# Altium schematic symbol library Schlib1.SchLib: 390 symbols (part 1 of 5)
Pins are listed as number, name and electrical type; pins without a type are passive.

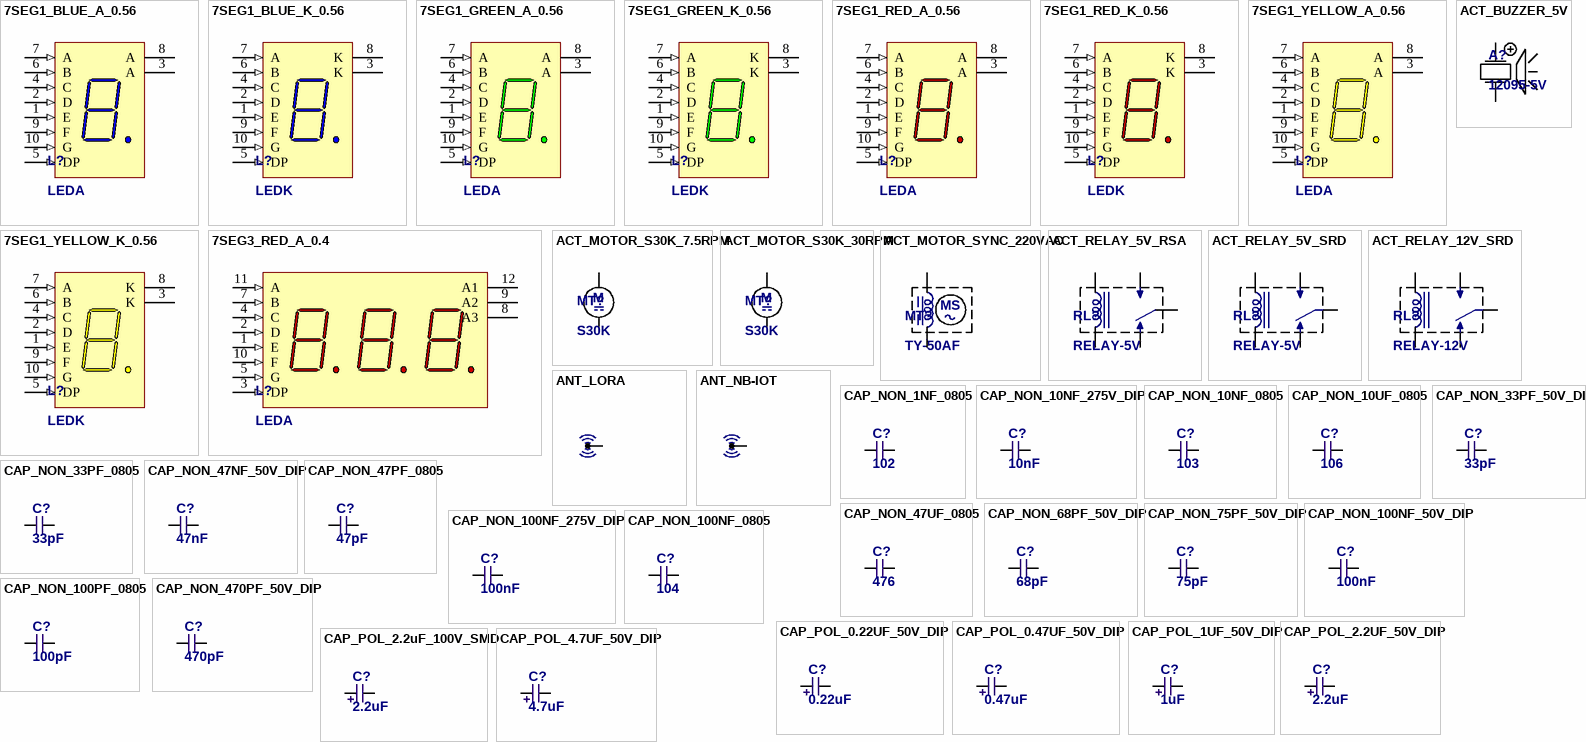
[diagram p0: symbols 7SEG1_BLUE_A_0.56 to CAP_POL_4.7UF_50V_DIP]

## 7SEG1_BLUE_A_0.56
designator L?, comment LEDA
Segment Digit LED Display; Price: 0.26; Package: TH
footprint LED7SEG-1-0.56
pins: 1 E (in) "Cathode", 2 D (in) "Cathode", 3 A (power) "Anode", 4 C (in) "Cathode", 5 DP (in) "Cathode", 6 B (in) "Cathode", 7 A (in) "Cathode", 8 A (power) "Anode", 9 F (in) "Cathode", 10 G (in) "Cathode"

## 7SEG1_BLUE_K_0.56
designator L?, comment LEDK
Segment Digit LED Display; Price: 0.26; Package: TH
footprint LED7SEG-1-0.56
pins: 1 E (in) "Cathode", 2 D (in) "Cathode", 3 K (power) "Anode", 4 C (in) "Cathode", 5 DP (in) "Cathode", 6 B (in) "Cathode", 7 A (in) "Cathode", 8 K (power) "Anode", 9 F (in) "Cathode", 10 G (in) "Cathode"

## 7SEG1_GREEN_A_0.56
designator L?, comment LEDA
Segment Digit LED Display; Price: 0.26; Package: TH
footprint LED7SEG-1-0.56
pins: 1 E (in) "Cathode", 2 D (in) "Cathode", 3 A (power) "Anode", 4 C (in) "Cathode", 5 DP (in) "Cathode", 6 B (in) "Cathode", 7 A (in) "Cathode", 8 A (power) "Anode", 9 F (in) "Cathode", 10 G (in) "Cathode"

## 7SEG1_GREEN_K_0.56
designator L?, comment LEDK
Segment Digit LED Display; Price: 0.26; Package: TH
footprint LED7SEG-1-0.56
pins: 1 E (in) "Cathode", 2 D (in) "Cathode", 3 K (power) "Anode", 4 C (in) "Cathode", 5 DP (in) "Cathode", 6 B (in) "Cathode", 7 A (in) "Cathode", 8 K (power) "Anode", 9 F (in) "Cathode", 10 G (in) "Cathode"

## 7SEG1_RED_A_0.56
designator L?, comment LEDA
Segment Digit LED Display; Price: 0.26; Package: TH
footprint LED7SEG-1-0.56
pins: 1 E (in) "Cathode", 2 D (in) "Cathode", 3 A (power) "Anode", 4 C (in) "Cathode", 5 DP (in) "Cathode", 6 B (in) "Cathode", 7 A (in) "Cathode", 8 A (power) "Anode", 9 F (in) "Cathode", 10 G (in) "Cathode"

## 7SEG1_RED_K_0.56
designator L?, comment LEDK
Segment Digit LED Display; Price: 0.26; Package: TH
footprint LED7SEG-1-0.56
pins: 1 E (in) "Cathode", 2 D (in) "Cathode", 3 K (power) "Anode", 4 C (in) "Cathode", 5 DP (in) "Cathode", 6 B (in) "Cathode", 7 A (in) "Cathode", 8 K (power) "Anode", 9 F (in) "Cathode", 10 G (in) "Cathode"

## 7SEG1_YELLOW_A_0.56
designator L?, comment LEDA
Segment Digit LED Display; Price: 0.26; Package: TH
footprint LED7SEG-1-0.56
pins: 1 E (in) "Cathode", 2 D (in) "Cathode", 3 A (power) "Anode", 4 C (in) "Cathode", 5 DP (in) "Cathode", 6 B (in) "Cathode", 7 A (in) "Cathode", 8 A (power) "Anode", 9 F (in) "Cathode", 10 G (in) "Cathode"

## 7SEG1_YELLOW_K_0.56
designator L?, comment LEDK
Segment Digit LED Display; Price: 0.26; Package: TH
footprint LED7SEG-1-0.56
pins: 1 E (in) "Cathode", 2 D (in) "Cathode", 3 K (power) "Anode", 4 C (in) "Cathode", 5 DP (in) "Cathode", 6 B (in) "Cathode", 7 A (in) "Cathode", 8 K (power) "Anode", 9 F (in) "Cathode", 10 G (in) "Cathode"

## 7SEG3_RED_A_0.4
designator L?, comment LEDA
Segment Digit LED Display; Price: 0.26; Package: TH
footprint LED7SEG-4031-0.4
pins: 1 E (in) "Cathode", 2 D (in) "Cathode", 3 DP (in) "Cathode", 4 C (in) "Cathode", 5 G (in) "Cathode", 7 B (in) "Cathode", 8 A3 (power) "Anode", 9 A2 (power) "Anode", 10 F (in) "Cathode", 11 A (in) "Cathode", 12 A1 (power) "Anode"

## ACT_BUZZER_5V
designator A?, comment 12095-5V
ALARM-AUDIBLE PIEZO ALARM PIN TYPE; 5V; Container: Inductors_Box; Price: 0.1; Package: TH; Stock: 8; Label: 12095-5V; Manufacturer: https://shopee.vn/Set-10-C%C3%B2i-B%C3%A1o-12095-3v-5v-12v-12*9.5mm-16R-12085-Chuy%C3%AAn-D%E1%BB%A5ng-i.778834786.13593389786; Temperature Range: -20 to +70 degC; ComponentLink1Description: Datasheet; ComponentLink1URL: E:\NEW_DATA\ELECTRONIC_DOCUMENT\DATASHEET\51-7600_v1.pdf
footprint BUZZER_KPM1205
pins: A, K

## ACT_MOTOR_S30K_7.5RPM
designator MT?, comment S30K
DC MOTOR, RPM=7.5, P=1.2 kg.cm; Container: Inductors_Box; Price: 1.9; Package: TH; Stock: 0; Label: S30K; Manufacturer: https://item.taobao.com/item.htm?spm=a230r.1.14.19.505a5586R96faC&id=521016360155&ns=1&abbucket=16#detail; Temperature Range: -25 to +70 degC; ComponentLink1Description: Datasheet; ComponentLink1URL: E:\NEW_DATA\ELECTRONIC_DOCUMENT\DATASHEET\T2.GtgXX8dXXXXXXXX_!!26824653.jpg
footprint Header 2P (CON2)
pins: 1 P, 2 N
text: M

## ACT_MOTOR_S30K_30RPM
designator MT?, comment S30K
DC MOTOR, RPM=30, P=0.4 kg.cm; Container: Inductors_Box; Price: 1.52; Package: TH; Stock: 0; Label: S30K; Manufacturer: https://item.taobao.com/item.htm?spm=a230r.1.14.19.505a5586R96faC&id=521016360155&ns=1&abbucket=16#detail; Temperature Range: -25 to +70 degC; ComponentLink1Description: Datasheet; ComponentLink1URL: E:\NEW_DATA\ELECTRONIC_DOCUMENT\DATASHEET\T2.GtgXX8dXXXXXXXX_!!26824653.jpg
footprint Header 2P (CON2)
pins: 1 P, 2 N
text: M

## ACT_MOTOR_SYNC_220VAC
designator MT?, comment TY-50AF
AC SYNCHRONOUS MOTOR MOTOR-24H, RPM=3, P<4W; Container: Inductors_Box; Label: SYNC_MOTOR; Price: 1.1; Package: TH; Stock: 2; Manufacturer: https://shopee.vn/Motor-chuy%E1%BB%83n-h%C6%B0%E1%BB%9Bng-qu%E1%BA%A1t-motor-gi%E1%BA%A3m-t%E1%BB%91c-lo%E1%BA%A1i-1-i.70103214.2272726108?sp_atk=846418d1-7330-4d9b-bfc3-e1831d5a1b6b&xptdk=846418d1-7330-4d9b-bfc3-e1831d5a1b6b; Temperature Range: -25 to +70 degC; ComponentLink1Description: Datasheet; ComponentLink1URL: E:\NEW_DATA\ELECTRONIC_DOCUMENT\DATASHEET\TY-50AF.pdf
pins: 4, 5
text: MS

## ACT_RELAY_5V_RSA
designator RL?, comment RELAY-5V
SRA-05VDC-CL, Rc=0.1R; Container: Inductors_Box; Label: RELAY_PACK; Price: 0.4; Package: TH; Stock: 5; Manufacturer: https://shopee.vn/Set-5-R%C6%A1-Le-Sara-05V-12v-24vdc-al-cl-T74-20a-4-Feet-5-Feet-i.395117932.8660737606; Temperature Range: -40 to +85 degC; ComponentLink1Description: Datasheet; ComponentLink1URL: E:\NEW_DATA\ELECTRONIC_DOCUMENT\DATASHEET\datasheet_14 (2).pdf
footprint RELAY_SRA
pins: 1, 2, 3, 4, 5

## ACT_RELAY_5V_SRD
designator RL?, comment RELAY-5V
YL303H-S-5VDC-1Z; Container: Inductors_Box; Label: RELAY_PACK; Price: 0.41; Package: TH; Stock: 1; Manufacturer: https://shopee.vn/-2-CON-(F79)-RELAY-5-CH%C3%82N-SRD-10A-(SRD-03V-05V-06V-09V-12V-24VDC-SL-C)-Ch%E1%BB%8Dn-Lo%E1%BA%A1i--i.29971197.11644564764?sp_atk=659c733c-0038-42fa-aeda-efbaf50d6b8b&xptdk=659c733c-0038-42fa-aeda-efbaf50d6b8b; Temperature Range: -25 to +70 degC; ComponentLink1Description: Datasheet; ComponentLink1URL: E:\NEW_DATA\ELECTRONIC_DOCUMENT\DATASHEET\YL303H-S-12VDC-1Z-datasheet-relay.pdf
footprint RELAY_SRD (Reley DPDT, 8 pin, 1A, W400mil, L800mil,H 300mil)
pins: 1, 2, 3, 4, 5

## ACT_RELAY_12V_SRD
designator RL?, comment RELAY-12V
SRD-12VDC-SL-A, Rc=0.1R; Container: Inductors_Box; Label: RELAY_PACK; Price: 0.41; Package: TH; Stock: 6; Manufacturer: https://shopee.vn/-2-CON-(F79)-RELAY-5-CH%C3%82N-SRD-10A-(SRD-03V-05V-06V-09V-12V-24VDC-SL-C)-Ch%E1%BB%8Dn-Lo%E1%BA%A1i--i.29971197.11644564764?sp_atk=659c733c-0038-42fa-aeda-efbaf50d6b8b&xptdk=659c733c-0038-42fa-aeda-efbaf50d6b8b; Temperature Range: -25 to +70 degC; ComponentLink1Description: Datasheet; ComponentLink1URL: E:\NEW_DATA\ELECTRONIC_DOCUMENT\DATASHEET\datasheet_14.pdf
footprint RELAY_SRD (Reley DPDT, 8 pin, 1A, W400mil, L800mil,H 300mil)
pins: 1, 2, 3, 4, 5

## ANT_LORA
designator A?, comment LoRa
LoRa antenna 500MHz; Container: PCB-MODULE; Label: ANT_LORA; Price: 0.05; Package: TH; Stock: 0; Manufacturer: https://item.taobao.com/item.htm?spm=a1z10.3-c.w4002-23480079847.10.50be3e68lhUJLt&id=598594829422; Temperature Range: -40 to +125 degC
footprint ANT_LORA
pins: 1 ANT

## ANT_NB-IOT
designator A?, comment NB-IOT
GPRS NBIOT GSM B3 B5 B8. 900 MHz, 1800MHz.; Container: PCB-MODULE; Label: ANT_NB-IOT; Price: 0.05; Package: TH; Stock: 0; Manufacturer: https://item.taobao.com/item.htm?spm=a1z10.3-c.w4002-23480079847.10.50be3e68lhUJLt&id=598594829422; Temperature Range: -40 to +125 degC
footprint ANT_NB-IOT
pins: 1 ANT

## CAP_NON_1NF_0805
designator C?, comment 102
Multilayer SMD Ceramic Capacitors, Vmax 50V; Container: Capacitors_Box; Label: 0805-1NF; Price: 0.006; Package: SMD; Stock: 6; Manufacturer: https://shopee.vn/Set-100-T%E1%BB%A5-%C4%90i%E1%BB%87n-G%E1%BB%91m-0805-SMD-100pF-47uF-100pF-1nF-10nF-100nF-0.1uF-1uF-2.2uF-4.7uF-10uF-22uF-i.778834786.13694429713; Temperature Range: -55 to +125 degC; ComponentLink1Description: Datasheet; ComponentLink1URL: E:\NEW_DATA\ELECTRONIC_DOCUMENT\DATASHEET\1723208.pdf
footprint CAP-SMD-0805
simulation model GRM21A5C2E102FWA1 (----------------------------------------------------------------------)
pins: 1, 2

## CAP_NON_10NF_275V_DIP
designator C?, comment 10nF
AC-Capacitors, Suppression Capacitors Class X2 AC 275 V; Container: Capacitors_Box; Label: 10nF-275V; Price: 0.042; Package: TH; Stock: 1; Manufacturer: https://shopee.vn/Set-20-T%E1%BB%A5-%C4%90i%E1%BB%87n-An-To%C3%A0n-X2-275V-0.022UF-0.047UF-0.1UF-0.15UF-0.22UF-0.33UF-0.47UF-0.68UF-1UF-i.762880341.16863874529?sp_atk=41b2b578-b3ed-4726-b8a2-7443216cae73&xptdk=41b2b578-b3ed-4726-b8a2-7443216cae73; Temperature Range: -25 to +85 degC; ComponentLink1Description: Datasheet; ComponentLink1URL: E:\NEW_DATA\ELECTRONIC_DOCUMENT\DATASHEET\f1778275.pdf
simulation model GRM21B5C2E103FWAA (----------------------------------------------------------------------)
footprint CAP_NON_400MIL
pins: 1, 2

## CAP_NON_10NF_0805
designator C?, comment 103
Multilayer SMD Ceramic Capacitors, Vmax 50V; Container: Capacitors_Box; Label: 0805-10NF; Price: 0.006; Package: SMD; Stock: 89; Manufacturer: https://shopee.vn/Set-100-T%E1%BB%A5-%C4%90i%E1%BB%87n-G%E1%BB%91m-0805-SMD-100pF-47uF-100pF-1nF-10nF-100nF-0.1uF-1uF-2.2uF-4.7uF-10uF-22uF-i.778834786.13694429713; Temperature Range: -55 to +125 degC; ComponentLink1Description: Datasheet; ComponentLink1URL: E:\NEW_DATA\ELECTRONIC_DOCUMENT\DATASHEET\1723208.pdf
footprint CAP-SMD-0805
simulation model GRM2161X1H103JA01 (----------------------------------------------------------------------)
pins: 1, 2

## CAP_NON_10UF_0805
designator C?, comment 106
Multilayer SMD Ceramic Capacitors, Vmax 6.3V; Container: Capacitors_Box; Label: 0805-10UF; Price: 0.006; Package: SMD; Stock: 95; Manufacturer: https://shopee.vn/Set-100-T%E1%BB%A5-%C4%90i%E1%BB%87n-G%E1%BB%91m-0805-SMD-100pF-47uF-100pF-1nF-10nF-100nF-0.1uF-1uF-2.2uF-4.7uF-10uF-22uF-i.778834786.13694429713; Temperature Range: -55 to +125 degC; ComponentLink1Description: Datasheet; ComponentLink1URL: E:\NEW_DATA\ELECTRONIC_DOCUMENT\DATASHEET\1723208.pdf
footprint CAP-SMD-0805
simulation model GRM21BB30J106KE18 (----------------------------------------------------------------------)
pins: 1, 2

## CAP_NON_33PF_50V_DIP
designator C?, comment 33pF
Ceramic Disc Capacitors, MCCHU Series; Container: Capacitors_Box; Label: 33pF-50V; Price: 0.004; Package: TH; Stock: 200; Manufacturer: https://shopee.vn/Set-100-T%E1%BB%A5-G%E1%BB%91m-50V-1pF-~-100nF-0.1uF-104-4.7PF-10PF-22PF-33PF-47PF-100PF-101-220PF-10NF-10NF-330PF-470PF-1NF-103-47NF-473-Ch%E1%BA%A5t-L%C6%B0%E1%BB%A3ng-Cao-i.778834786.17975668941?sp_atk=3a5fc38d-5123-497e-86f7-9862871296e1&xptdk=3a5fc38d-5123-497e-86f7-9862871296e1; Temperature Range: -25 to +85 degC; ComponentLink1Description: Datasheet; ComponentLink1URL: E:\NEW_DATA\ELECTRONIC_DOCUMENT\DATASHEET\2577800.pdf
simulation model GRM21A5C2E330FW01 (----------------------------------------------------------------------)
footprint CAP_NON_100MIL
footprint CAP_NON_200mil
pins: 1, 2

## CAP_NON_33PF_0805
designator C?, comment 33pF
Multilayer SMD Ceramic Capacitors, Vmax 50V; Container: Capacitors_Box; Label: 0805-33PF; Price: 0.006; Package: SMD; Stock: 25; Manufacturer: https://shopee.vn/Set-100-T%E1%BB%A5-%C4%90i%E1%BB%87n-G%E1%BB%91m-0805-SMD-100pF-47uF-100pF-1nF-10nF-100nF-0.1uF-1uF-2.2uF-4.7uF-10uF-22uF-i.778834786.13694429713; Temperature Range: -55 to +125 degC; ComponentLink1Description: Datasheet; ComponentLink1URL: E:\NEW_DATA\ELECTRONIC_DOCUMENT\DATASHEET\1723208.pdf
footprint CAP-SMD-0805
simulation model GRM21A5C2E330FW01 (----------------------------------------------------------------------)
pins: 1, 2

## CAP_NON_47NF_50V_DIP
designator C?, comment 47nF
Ceramic Disc Capacitors, MCCHU Series; Container: Capacitors_Box; Label: 47nF-50V; Price: 0.004; Package: TH; Stock: 9; Manufacturer: https://shopee.vn/Set-100-T%E1%BB%A5-G%E1%BB%91m-50V-1pF-~-100nF-0.1uF-104-4.7PF-10PF-22PF-33PF-47PF-100PF-101-220PF-10NF-10NF-330PF-470PF-1NF-103-47NF-473-Ch%E1%BA%A5t-L%C6%B0%E1%BB%A3ng-Cao-i.778834786.17975668941?sp_atk=3a5fc38d-5123-497e-86f7-9862871296e1&xptdk=3a5fc38d-5123-497e-86f7-9862871296e1; Temperature Range: -25 to +85 degC; ComponentLink1Description: Datasheet; ComponentLink1URL: E:\NEW_DATA\ELECTRONIC_DOCUMENT\DATASHEET\2577800.pdf
simulation model GRM21B7U1H473JA01 (----------------------------------------------------------------------)
footprint CAP_NON_100MIL
footprint CAP_NON_200mil
pins: 1, 2

## CAP_NON_47PF_0805
designator C?, comment 47pF
Multilayer SMD Ceramic Capacitors, Vmax 50V; Container: Capacitors_Box; Label: 0805-47PF; Price: 0.006; Package: SMD; Stock: 10; Manufacturer: https://shopee.vn/Set-100-T%E1%BB%A5-%C4%90i%E1%BB%87n-G%E1%BB%91m-0805-SMD-100pF-47uF-100pF-1nF-10nF-100nF-0.1uF-1uF-2.2uF-4.7uF-10uF-22uF-i.778834786.13694429713; Temperature Range: -55 to +125 degC; ComponentLink1Description: Datasheet; ComponentLink1URL: E:\NEW_DATA\ELECTRONIC_DOCUMENT\DATASHEET\1723208.pdf
footprint CAP-SMD-0805
simulation model GRM21A5C2E470FW01 (----------------------------------------------------------------------)
pins: 1, 2

## CAP_NON_47UF_0805
designator C?, comment 476
Multilayer SMD Ceramic Capacitors, Vmax 6.3V; Container: Capacitors_Box; Label: 0805-47UF; Price: 0.006; Package: SMD; Stock: 100; Manufacturer: https://shopee.vn/Set-100-T%E1%BB%A5-%C4%90i%E1%BB%87n-G%E1%BB%91m-0805-SMD-100pF-47uF-100pF-1nF-10nF-100nF-0.1uF-1uF-2.2uF-4.7uF-10uF-22uF-i.778834786.13694429713; Temperature Range: -55 to +125 degC; ComponentLink1Description: Datasheet; ComponentLink1URL: E:\NEW_DATA\ELECTRONIC_DOCUMENT\DATASHEET\1723208.pdf
footprint CAP-SMD-0805
simulation model GRM219D80E476ME44 (----------------------------------------------------------------------)
pins: 1, 2

## CAP_NON_68PF_50V_DIP
designator C?, comment 68pF
Ceramic Disc Capacitors, MCCHU Series; Container: Capacitors_Box; Label: 68pF-50V; Price: 0.004; Package: TH; Stock: 9; Manufacturer: https://shopee.vn/Set-100-T%E1%BB%A5-G%E1%BB%91m-50V-1pF-~-100nF-0.1uF-104-4.7PF-10PF-22PF-33PF-47PF-100PF-101-220PF-10NF-10NF-330PF-470PF-1NF-103-47NF-473-Ch%E1%BA%A5t-L%C6%B0%E1%BB%A3ng-Cao-i.778834786.17975668941?sp_atk=3a5fc38d-5123-497e-86f7-9862871296e1&xptdk=3a5fc38d-5123-497e-86f7-9862871296e1; Temperature Range: -25 to +85 degC; ComponentLink1Description: Datasheet; ComponentLink1URL: E:\NEW_DATA\ELECTRONIC_DOCUMENT\DATASHEET\2577800.pdf
simulation model GRM21A5C2E680FW01 (----------------------------------------------------------------------)
footprint CAP_NON_100MIL
footprint CAP_NON_200mil
pins: 1, 2

## CAP_NON_75PF_50V_DIP
designator C?, comment 75pF
Ceramic Disc Capacitors, MCCHU Series; Container: Capacitors_Box; Label: 75pF-50V; Price: 0.004; Package: TH; Stock: 10; Manufacturer: https://shopee.vn/Set-100-T%E1%BB%A5-G%E1%BB%91m-50V-1pF-~-100nF-0.1uF-104-4.7PF-10PF-22PF-33PF-47PF-100PF-101-220PF-10NF-10NF-330PF-470PF-1NF-103-47NF-473-Ch%E1%BA%A5t-L%C6%B0%E1%BB%A3ng-Cao-i.778834786.17975668941?sp_atk=3a5fc38d-5123-497e-86f7-9862871296e1&xptdk=3a5fc38d-5123-497e-86f7-9862871296e1; Temperature Range: -25 to +85 degC; ComponentLink1Description: Datasheet; ComponentLink1URL: E:\NEW_DATA\ELECTRONIC_DOCUMENT\DATASHEET\2577800.pdf; Value: 75pF
simulation model GRM21A5C2E330FW01 (----------------------------------------------------------------------)
footprint CAP_NON_100MIL
footprint CAP_NON_200mil
pins: 1, 2

## CAP_NON_100NF_50V_DIP
designator C?, comment 100nF
Ceramic Disc Capacitors, MCCHU Series; Container: Capacitors_Box; Label: 100nF-50V; Price: 0.004; Package: TH; Stock: 50; Manufacturer: https://shopee.vn/Set-100-T%E1%BB%A5-G%E1%BB%91m-50V-1pF-~-100nF-0.1uF-104-4.7PF-10PF-22PF-33PF-47PF-100PF-101-220PF-10NF-10NF-330PF-470PF-1NF-103-47NF-473-Ch%E1%BA%A5t-L%C6%B0%E1%BB%A3ng-Cao-i.778834786.17975668941?sp_atk=3a5fc38d-5123-497e-86f7-9862871296e1&xptdk=3a5fc38d-5123-497e-86f7-9862871296e1; Temperature Range: -25 to +85 degC; ComponentLink1Description: Datasheet; ComponentLink1URL: E:\NEW_DATA\ELECTRONIC_DOCUMENT\DATASHEET\2577800.pdf
simulation model GRM21BR11E104KA01 (----------------------------------------------------------------------)
footprint CAP_NON_100MIL
footprint CAP_NON_200mil
pins: 1, 2

## CAP_NON_100NF_275V_DIP
designator C?, comment 100nF
AC-Capacitors, Suppression Capacitors Class X2 AC 275 V; Container: Capacitors_Box; Label: 100nF-275V; Price: 0.042; Package: TH; Stock: 4; Manufacturer: https://shopee.vn/Set-20-T%E1%BB%A5-%C4%90i%E1%BB%87n-An-To%C3%A0n-X2-275V-0.022UF-0.047UF-0.1UF-0.15UF-0.22UF-0.33UF-0.47UF-0.68UF-1UF-i.762880341.16863874529?sp_atk=41b2b578-b3ed-4726-b8a2-7443216cae73&xptdk=41b2b578-b3ed-4726-b8a2-7443216cae73; Temperature Range: -25 to +85 degC; ComponentLink1Description: Datasheet; ComponentLink1URL: E:\NEW_DATA\ELECTRONIC_DOCUMENT\DATASHEET\f1778275.pdf
simulation model GRM21BR11E104KA01 (----------------------------------------------------------------------)
footprint CAP_NON_400MIL
pins: 1, 2

## CAP_NON_100NF_0805
designator C?, comment 104
Multilayer SMD Ceramic Capacitors, Vmax 50V; Container: Capacitors_Box; Label: 0805-100NF; Price: 0.006; Package: SMD; Stock: 76; Manufacturer: https://shopee.vn/Set-100-T%E1%BB%A5-%C4%90i%E1%BB%87n-G%E1%BB%91m-0805-SMD-100pF-47uF-100pF-1nF-10nF-100nF-0.1uF-1uF-2.2uF-4.7uF-10uF-22uF-i.778834786.13694429713; Temperature Range: -55 to +125 degC; ComponentLink1Description: Datasheet; ComponentLink1URL: E:\NEW_DATA\ELECTRONIC_DOCUMENT\DATASHEET\1723208.pdf
footprint CAP-SMD-0805
simulation model GRM21B1X1A104JA01 (----------------------------------------------------------------------)
pins: 1, 2

## CAP_NON_100PF_0805
designator C?, comment 100pF
Multilayer SMD Ceramic Capacitors, Vmax 50V; Container: Capacitors_Box; Label: 0805-100PF; Price: 0.006; Package: SMD; Stock: 19; Manufacturer: https://shopee.vn/Set-100-T%E1%BB%A5-%C4%90i%E1%BB%87n-G%E1%BB%91m-0805-SMD-100pF-47uF-100pF-1nF-10nF-100nF-0.1uF-1uF-2.2uF-4.7uF-10uF-22uF-i.778834786.13694429713; Temperature Range: -55 to +125 degC; ComponentLink1Description: Datasheet; ComponentLink1URL: E:\NEW_DATA\ELECTRONIC_DOCUMENT\DATASHEET\1723208.pdf
footprint CAP-SMD-0805
simulation model GRM21A5C2E101FW01 (----------------------------------------------------------------------)
pins: 1, 2

## CAP_NON_470PF_50V_DIP
designator C?, comment 470pF
Ceramic Disc Capacitors, MCCHU Series; Container: Capacitors_Box; Label: 470pF-50V; Price: 0.004; Package: TH; Stock: 6; Manufacturer: https://shopee.vn/Set-100-T%E1%BB%A5-G%E1%BB%91m-50V-1pF-~-100nF-0.1uF-104-4.7PF-10PF-22PF-33PF-47PF-100PF-101-220PF-10NF-10NF-330PF-470PF-1NF-103-47NF-473-Ch%E1%BA%A5t-L%C6%B0%E1%BB%A3ng-Cao-i.778834786.17975668941?sp_atk=3a5fc38d-5123-497e-86f7-9862871296e1&xptdk=3a5fc38d-5123-497e-86f7-9862871296e1; Temperature Range: -25 to +85 degC; ComponentLink1Description: Datasheet; ComponentLink1URL: E:\NEW_DATA\ELECTRONIC_DOCUMENT\DATASHEET\2577800.pdf
simulation model GRM21A5C2E471FWA1 (----------------------------------------------------------------------)
footprint CAP_NON_100MIL
footprint CAP_NON_200mil
pins: 1, 2

## CAP_POL_0.22UF_50V_DIP
designator C?, comment 0.22uF
RS PRO Through Hole Aluminium Electrolytic Capacitor Low-ESR; Container: Capacitors_Box; Label: 0.22uF-50V; Price: 0.011; Package: TH; Stock: 1; Manufacturer: https://shopee.vn/Set-120pcs-t%E1%BB%A5-nh%C3%B4m-%C4%91i%E1%BB%87n-ph%C3%A2n-0.22UF-470UF-i.101758806.1635771936; Temperature Range: -40 to +105 degC; ComponentLink1Description: Datasheet; ComponentLink1URL: E:\NEW_DATA\ELECTRONIC_DOCUMENT\DATASHEET\0900766b8173e32a.pdf; Value: 0.22uF
simulation model Capacitor (Model Description)
footprint Cap_AL_DIP_4X7
pins: 1, 2

## CAP_POL_0.47UF_50V_DIP
designator C?, comment 0.47uF
RS PRO Through Hole Aluminium Electrolytic Capacitor Low-ESR; Container: Capacitors_Box; Label: 0.47uF-50V; Price: 0.011; Package: TH; Stock: 8; Manufacturer: https://shopee.vn/Set-120pcs-t%E1%BB%A5-nh%C3%B4m-%C4%91i%E1%BB%87n-ph%C3%A2n-0.22UF-470UF-i.101758806.1635771936; Temperature Range: -40 to +105 degC; ComponentLink1Description: Datasheet; ComponentLink1URL: E:\NEW_DATA\ELECTRONIC_DOCUMENT\DATASHEET\0900766b8173e32a.pdf; Value: 0.47uF
simulation model Capacitor (Model Description)
footprint Cap_AL_DIP_4X7
pins: 1, 2

## CAP_POL_1UF_50V_DIP
designator C?, comment 1uF
RS PRO Through Hole Aluminium Electrolytic Capacitor Low-ESR; Container: Capacitors_Box; Label: 1uF-50V; Price: 0.015; Package: TH; Stock: 19; Manufacturer: https://shopee.vn/Set-50-T%E1%BB%A5-%C4%90i%E1%BB%87n-Nh%C3%B4m-50V-50V-22UF-47UF-100UF-220UF-330UF-470UF-680UF-1000UF-2200UF-i.762880341.20001246124?sp_atk=217a51ca-9431-409e-ab22-eb704ed7d61e&xptdk=217a51ca-9431-409e-ab22-eb704ed7d61e; Temperature Range: -40 to +105 degC; ComponentLink1Description: Datasheet; ComponentLink1URL: E:\NEW_DATA\ELECTRONIC_DOCUMENT\DATASHEET\0900766b8173e32a.pdf; Value: 1uF
simulation model Capacitor (Model Description)
footprint CAP_AL_DIP_5x11
footprint Cap_AL_DIP_4X7
pins: 1, 2

## CAP_POL_2.2UF_50V_DIP
designator C?, comment 2.2uF
RS PRO Through Hole Aluminium Electrolytic Capacitor Low-ESR; Container: Capacitors_Box; Label: 2.2uF-50V; Price: 0.011; Package: TH; Stock: 18; Manufacturer: https://shopee.vn/Set-120pcs-t%E1%BB%A5-nh%C3%B4m-%C4%91i%E1%BB%87n-ph%C3%A2n-0.22UF-470UF-i.101758806.1635771936; Temperature Range: -40 to +105 degC; ComponentLink1Description: Datasheet; ComponentLink1URL: E:\NEW_DATA\ELECTRONIC_DOCUMENT\DATASHEET\0900766b8173e32a.pdf; Value: 2.2uF
simulation model Capacitor (Model Description)
footprint Cap_AL_DIP_4X7
footprint CAP_AL_DIP_5x11
pins: 1, 2

## CAP_POL_2.2uF_100V_SMD
designator C?, comment 2.2uF
ALUMINUM  ELECTROLYTIC  CAPACITORS; Container: Capacitors_Box; Label: 2.2uF-100V; Price: 0.02; Package: SMD; Stock: 0; Manufacturer: https://item.taobao.com/item.htm?spm=a1z10.3-c-s.w4002-24706531953.32.3bcd6a4bhdbXxl&id=607598045098; Temperature Range: -55 to +105 degC; ComponentLink1Description: Datasheet; ComponentLink1URL: E:\NEW_DATA\ELECTRONIC_DOCUMENT\DATASHEET\e-ut.pdf; Value: 2.2uF
simulation model CAPACITOR
footprint CAP_SMD_C
pins: 1, 2

## CAP_POL_4.7UF_50V_DIP
designator C?, comment 4.7uF
RS PRO Through Hole Aluminium Electrolytic Capacitor Low-ESR; Container: Capacitors_Box; Label: 4.7uF-50V; Price: 0.011; Package: TH; Stock: 10; Manufacturer: https://shopee.vn/Set-120pcs-t%E1%BB%A5-nh%C3%B4m-%C4%91i%E1%BB%87n-ph%C3%A2n-0.22UF-470UF-i.101758806.1635771936; Temperature Range: -40 to +105 degC; ComponentLink1Description: Datasheet; ComponentLink1URL: E:\NEW_DATA\ELECTRONIC_DOCUMENT\DATASHEET\0900766b8173e32a.pdf; Value: 4.7uF
simulation model Capacitor (Model Description)
footprint Cap_AL_DIP_4X7
pins: 1, 2

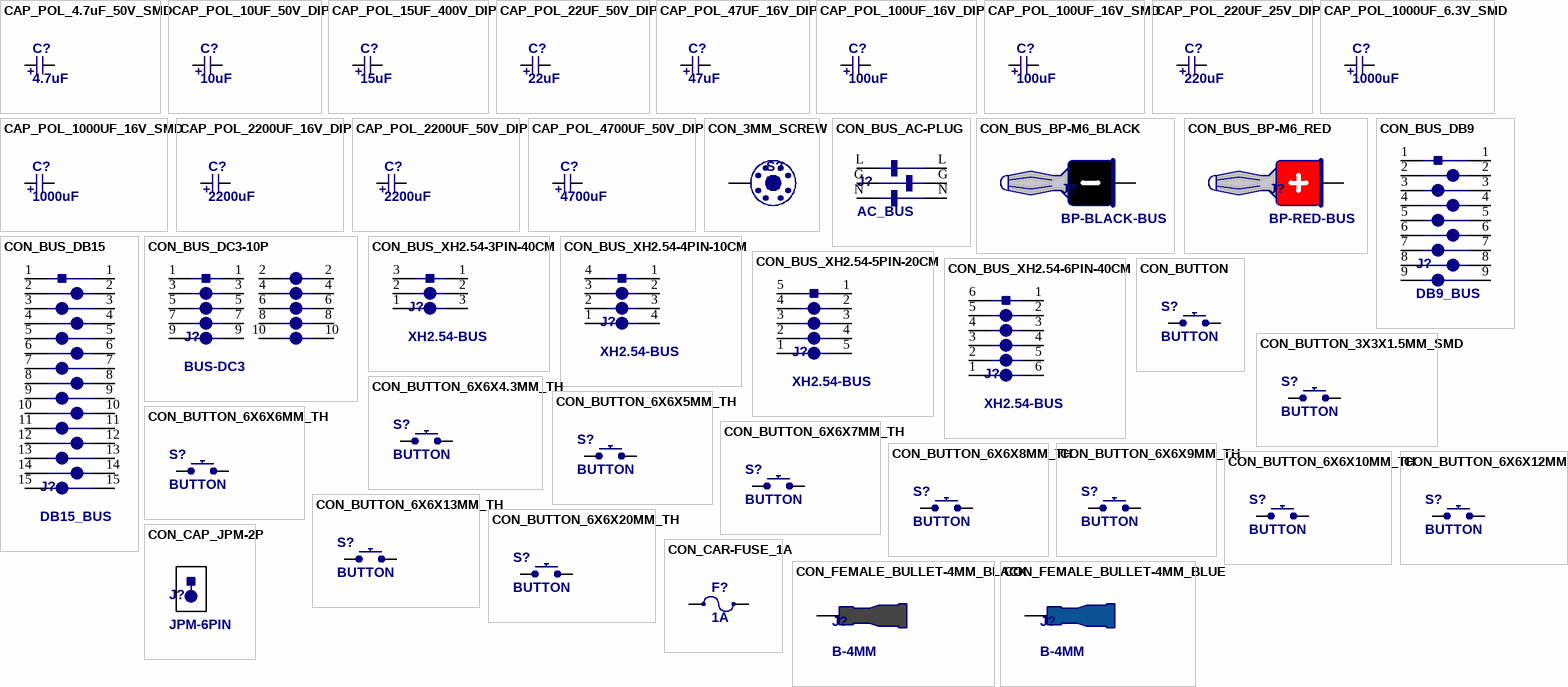
[diagram p1: symbols CAP_POL_4.7uF_50V_SMD to CON_FEMALE_BULLET-4MM_BLUE]

## CAP_POL_4.7uF_50V_SMD
designator C?, comment 4.7uF
ALUMINUM  ELECTROLYTIC  CAPACITORS; Container: Capacitors_Box; Label: 4.7uF-50V; Price: 0.008; Package: SMD; Stock: 0; Manufacturer: https://item.taobao.com/item.htm?spm=a1z10.3-c-s.w4002-24706531953.10.30906a4bqREEVN&id=522577844127; Temperature Range: -55 to +105 degC; ComponentLink1Description: Datasheet; ComponentLink1URL: E:\NEW_DATA\ELECTRONIC_DOCUMENT\DATASHEET\e-ut.pdf; Value: 4.7uF
simulation model CAPACITOR
footprint CAP_SMD_B
pins: 1, 2

## CAP_POL_10UF_50V_DIP
designator C?, comment 10uF
RS PRO Through Hole Aluminium Electrolytic Capacitor Low-ESR; Container: Capacitors_Box; Label: 10uF-50V; Price: 0.011; Package: TH; Stock: 10; Manufacturer: https://shopee.vn/Set-120pcs-t%E1%BB%A5-nh%C3%B4m-%C4%91i%E1%BB%87n-ph%C3%A2n-0.22UF-470UF-i.101758806.1635771936; Temperature Range: -40 to +105 degC; ComponentLink1Description: Datasheet; ComponentLink1URL: E:\NEW_DATA\ELECTRONIC_DOCUMENT\DATASHEET\0900766b8173e32a.pdf; Value: 10uF
simulation model Capacitor (Model Description)
footprint Cap_AL_DIP_4X7
pins: 1, 2

## CAP_POL_15UF_400V_DIP
designator C?, comment 15uF
RS PRO Through Hole Aluminium Electrolytic Capacitor Low-ESR; Container: Capacitors_Box; Label: 15uF-400V; Price: 0.15; Package: TH; Stock: 4; Manufacturer: https://shopee.vn/T%E1%BB%A5-H%C3%B3a-15uF-400V-i.151571719.9629067603?sp_atk=1a236665-1e2e-4f77-9a68-4d1c93c51eb2&xptdk=1a236665-1e2e-4f77-9a68-4d1c93c51eb2; Temperature Range: -40 to +105 degC; ComponentLink1Description: Datasheet; ComponentLink1URL: E:\NEW_DATA\ELECTRONIC_DOCUMENT\DATASHEET\0900766b8173e32a.pdf; Value: 15uF
footprint CAP_AL_DIP_10x16
simulation model Capacitor (Model Description)
pins: 1, 2

## CAP_POL_22UF_50V_DIP
designator C?, comment 22uF
RS PRO Through Hole Aluminium Electrolytic Capacitor Low-ESR; Container: Capacitors_Box; Label: 22uF-50V; Price: 0.011; Package: TH; Stock: 6; Manufacturer: https://shopee.vn/Set-120pcs-t%E1%BB%A5-nh%C3%B4m-%C4%91i%E1%BB%87n-ph%C3%A2n-0.22UF-470UF-i.101758806.1635771936; Temperature Range: -40 to +105 degC; ComponentLink1Description: Datasheet; ComponentLink1URL: E:\NEW_DATA\ELECTRONIC_DOCUMENT\DATASHEET\0900766b8173e32a.pdf; Value: 22uF
simulation model Capacitor (Model Description)
footprint CAP_AL_DIP_6.3x11
pins: 1, 2

## CAP_POL_47UF_16V_DIP
designator C?, comment 47uF
RS PRO Through Hole Aluminium Electrolytic Capacitor Low-ESR; Container: Capacitors_Box; Label: 47uF-16V; Price: 0.011; Package: TH; Stock: 8; Manufacturer: https://shopee.vn/Set-120pcs-t%E1%BB%A5-nh%C3%B4m-%C4%91i%E1%BB%87n-ph%C3%A2n-0.22UF-470UF-i.101758806.1635771936; Temperature Range: -40 to +105 degC; ComponentLink1Description: Datasheet; ComponentLink1URL: E:\NEW_DATA\ELECTRONIC_DOCUMENT\DATASHEET\0900766b8173e32a.pdf; Value: 47uF
simulation model Capacitor (Model Description)
footprint Cap_AL_DIP_4X7
pins: 1, 2

## CAP_POL_100UF_16V_DIP
designator C?, comment 100uF
RS PRO Through Hole Aluminium Electrolytic Capacitor Low-ESR; Container: Capacitors_Box; Label: 100uF-16V; Price: 0.028; Package: TH; Stock: 46; Manufacturer: https://shopee.vn/-25-CON-T%E1%BB%A5-h%C3%B3a-100uF-16V-(6x7mm)-i.29971197.1779362306; Temperature Range: -40 to +105 degC; ComponentLink1Description: Datasheet; ComponentLink1URL: E:\NEW_DATA\ELECTRONIC_DOCUMENT\DATASHEET\0900766b8173e32a.pdf; Value: 100uF
simulation model Capacitor (Model Description)
footprint CAP_AL_DIP_5x11
pins: 1, 2

## CAP_POL_100UF_16V_SMD
designator C?, comment 100uF
ALUMINUM  ELECTROLYTIC  CAPACITORS; Container: Capacitors_Box; Label: 100uF-16V; Price: 0.028; Package: TH; Stock: 0; Manufacturer: https://shopee.vn/-25-CON-T%E1%BB%A5-h%C3%B3a-100uF-16V-(6x7mm)-i.29971197.1779362306; Temperature Range: -40 to +105 degC; ComponentLink1Description: Datasheet; ComponentLink1URL: E:\NEW_DATA\ELECTRONIC_DOCUMENT\DATASHEET\e-ut.pdf; Value: 100uF
simulation model Capacitor (Model Description)
footprint CAP_SMD_D
pins: 1, 2

## CAP_POL_220UF_25V_DIP
designator C?, comment 220uF
RS PRO Through Hole Aluminium Electrolytic Capacitor Low-ESR, Rs=139mR, Ls=1.0uH; Container: Capacitors_Box; Label: 220UF-25V; Price: 0.04; Package: TH; Stock: 14; Manufacturer: https://shopee.vn/-10-CON-(G32.2)-T%E1%BB%A5-h%C3%B3a-220uF-25V-(8x12mm)-i.29971197.1779362283?sp_atk=29d1e278-aa24-4bd9-9bae-4cc1236b0b26&xptdk=29d1e278-aa24-4bd9-9bae-4cc1236b0b26; Temperature Range: -40 to +105 degC; ComponentLink1Description: Datasheet; ComponentLink1URL: E:\NEW_DATA\ELECTRONIC_DOCUMENT\DATASHEET\0900766b8173e32a.pdf; Value: 220uF
simulation model Capacitor (Model Description)
footprint CAP_AL_DIP_8x11.5
pins: 1, 2

## CAP_POL_1000UF_6.3V_SMD
designator C?, comment 1000uF
ALUMINUM  ELECTROLYTIC  CAPACITORS; Container: Capacitors_Box; Label: 1000uF-6.3V; Price: 0.1; Package: SMD; Stock: 9; Manufacturer: https://shopee.vn/Set-10-t%E1%BB%A5-%C4%91i%E1%BB%87n-nh%C3%B4m-1uf-220uf-Smd-6.3v-47uf-100uf-220uf-470uf-1000uf-ch%E1%BA%A5t-l%C6%B0%E1%BB%A3ng-cao-i.395117932.8048512997?sp_atk=69990654-f080-47d0-9859-6bc27c5572f2&xptdk=69990654-f080-47d0-9859-6bc27c5572f2; Temperature Range: -55 to +105 degC; ComponentLink1Description: Datasheet; ComponentLink1URL: E:\NEW_DATA\ELECTRONIC_DOCUMENT\DATASHEET\e-ut.pdf; Value: 1000uF
simulation model CAPACITOR
footprint CAP_SMD_F
pins: 1, 2

## CAP_POL_1000UF_16V_SMD
designator C?, comment 1000uF
ALUMINUM  ELECTROLYTIC  CAPACITORS; Container: Capacitors_Box; Label: 1000uF-16V; Price: 0.08; Package: SMD; Stock: 10; Manufacturer: https://shopee.vn/Set-20-T%E1%BB%A5-%C4%90i%E1%BB%87n-Nh%C3%B4m-Smd-16v-10uf-22uf-33uf-47uf-100uf-220uf-330uf-470uf-680uf-1000uf-Chuy%C3%AAn-D%E1%BB%A5ng-i.395117932.9948514166; Temperature Range: -55 to +105 degC; ComponentLink1Description: Datasheet; ComponentLink1URL: E:\NEW_DATA\ELECTRONIC_DOCUMENT\DATASHEET\e-ut.pdf; Value: 1000uF
simulation model CAPACITOR
footprint CAP_SMD_G
pins: 1, 2

## CAP_POL_2200UF_16V_DIP
designator C?, comment 2200uF
RS PRO Through Hole Aluminium Electrolytic Capacitor Low-ESR; Container: Capacitors_Box; Label: 2200UF-16V; Price: 0.07; Package: TH; Stock: 6; Manufacturer: https://shopee.vn/Set-100-T%E1%BB%A5-%C4%90i%E1%BB%87n-Nh%C3%B4m-16V-16V-100UF-220UF-470UF-680UF-1000UF-1500UF-2200UF-3300UF-4700UF-i.762880341.12091417167?sp_atk=471aecab-3a33-4bfe-9b1e-ad49c2c81918&xptdk=471aecab-3a33-4bfe-9b1e-ad49c2c81918; Temperature Range: -40 to +105 degC; ComponentLink1Description: Datasheet; ComponentLink1URL: E:\NEW_DATA\ELECTRONIC_DOCUMENT\DATASHEET\0900766b8173e32a.pdf; Value: 2200uF
footprint CAP_AL_DIP_10x20
simulation model Capacitor (Model Description)
pins: 1, 2

## CAP_POL_2200UF_50V_DIP
designator C?, comment 2200uF
RS PRO Through Hole Aluminium Electrolytic Capacitor Low-ESR; Container: Capacitors_Box; Label: 2200UF-50V; Price: 0.36; Package: TH; Stock: 0; Manufacturer: https://shopee.vn/-3-CON-(G37.4)-T%E1%BB%A5-h%C3%B3a-2-200uF-50V-(16x25mm)-(2200uF-50V)-i.29971197.1779362214?sp_atk=457263b7-1e02-417c-93e3-5a95ae6f24aa&xptdk=457263b7-1e02-417c-93e3-5a95ae6f24aa; Temperature Range: -40 to +105 degC; ComponentLink1Description: Datasheet; ComponentLink1URL: E:\NEW_DATA\ELECTRONIC_DOCUMENT\DATASHEET\0900766b8173e32a.pdf; Value: 2200uF
footprint CAP_AL_DIP_16X25
simulation model Capacitor (Model Description)
pins: 1, 2

## CAP_POL_4700UF_50V_DIP
designator C?, comment 4700uF
RS PRO Through Hole Aluminium Electrolytic Capacitor Low-ESR; Container: Capacitors_Box; Label: 4700UF-50V; Price: 0.8; Package: TH; Stock: 0; Manufacturer: https://shopee.vn/-2-CON-(G39.4)-T%E1%BB%A5-h%C3%B3a-4-700uF-50V-(18x35mm)-(4700uF-50V)-i.29971197.1779362195?sp_atk=89aaee08-9251-40b8-862a-376625eebb3c&xptdk=89aaee08-9251-40b8-862a-376625eebb3c; Temperature Range: -40 to +105 degC; ComponentLink1Description: Datasheet; ComponentLink1URL: E:\NEW_DATA\ELECTRONIC_DOCUMENT\DATASHEET\0900766b8173e32a.pdf; Value: 4700uF
footprint CAP_AL_DIP_18X35
simulation model Capacitor (Model Description)
pins: 1, 2

## CON_3MM_SCREW
designator S?, comment 3MM_SCREW  (value not drawn)  (net tie, no BOM)
Various metric 3mm screws suitable for many electronic projects.; Container: SCREW_BOX; Package: TH; Stock: 0; Temperature Range: -50 to +150 degC; Price: 0
footprint MY_PAD_3MM
pins: 0

## CON_BUS_AC-PLUG
designator J?, comment AC_BUS
Finland 2-Pin Wire Grounding, Straight AC Plug.; Price: 0.61; Package: TH; Stock: 0; Manufacturer: https://shopee.vn/D%C3%A2y-ngu%E1%BB%93n-220V-lo%E1%BA%A1i-t%E1%BB%91t-i.48272690.3907316323?sp_atk=2de6fbb9-c044-4bb5-b9f7-08e113f01a4e&xptdk=2de6fbb9-c044-4bb5-b9f7-08e113f01a4e; Temperature Range: -25 to +85 degC; ComponentLink1Description: Datasheet; ComponentLink1URL: E:\NEW_DATA\ELECTRONIC_DOCUMENT\DATASHEET\AC-01.jpg
pins: G, G, L, L, N, N

## CON_BUS_BP-M6_BLACK
designator J?, comment BP-BLACK-BUS
BINDING POSTS M6; Container: Connector_Fuse_Box; Label: BP_PACK; Price: 0.033; Package: TH; Stock: 5; Manufacturer: https://shopee.vn/Set-10-%C4%91%E1%BA%A7u-k%E1%BA%BFt-d%C3%A2y-loa-%C4%91en-%C4%91%E1%BB%8F-4mm-i.101758806.1647961616; Temperature Range: -25 to +85 degC; ComponentLink1Description: Datasheet; ComponentLink1URL: E:\NEW_DATA\ELECTRONIC_DOCUMENT\DATASHEET\BP.pdf
pins: N

## CON_BUS_BP-M6_RED
designator J?, comment BP-RED-BUS
BINDING POSTS M6; Container: Connector_Fuse_Box; Label: BP_PACK; Price: 0.033; Package: TH; Stock: 5; Manufacturer: https://shopee.vn/Set-10-%C4%91%E1%BA%A7u-k%E1%BA%BFt-d%C3%A2y-loa-%C4%91en-%C4%91%E1%BB%8F-4mm-i.101758806.1647961616; Temperature Range: -25 to +85 degC; ComponentLink1Description: Datasheet; ComponentLink1URL: E:\NEW_DATA\ELECTRONIC_DOCUMENT\DATASHEET\BP.pdf
pins: P

## CON_BUS_DB9
designator J?, comment DB9_BUS
DE-9 bus,  (COM PORT); Package: TH; Stock: 0; Manufacturer: https://tiki.vn/cap-tin-hieu-vga-danh-cho-may-tinh-dai-15m-p13719309.html?spid=49549980&utm_source=google&utm_medium=cpc&utm_campaign=SEA_NBR_GGL_PMA_DAP_ALL_VN_EA_UNK_UNK_C.ALL_X.18215988848_Y._V.49549980_W.DT_A._O.UNK; Temperature Range: -25 to +85 degC
pins: 1, 1, 2, 2, 3, 3, 4, 4, 5, 5, 6, 6, 7, 7, 8, 8, 9, 9

## CON_BUS_DB15
designator J?, comment DB15_BUS
High Density DB15 Male VGA Solder Connector; Price: 0.83; Package: TH; Stock: 0; Manufacturer: https://tiki.vn/cap-tin-hieu-vga-danh-cho-may-tinh-dai-15m-p13719309.html?spid=49549980&utm_source=google&utm_medium=cpc&utm_campaign=SEA_NBR_GGL_PMA_DAP_ALL_VN_EA_UNK_UNK_C.ALL_X.18215988848_Y._V.49549980_W.DT_A._O.UNK; Temperature Range: -25 to +85 degC; ComponentLink1Description: Datasheet; ComponentLink1URL: E:\NEW_DATA\ELECTRONIC_DOCUMENT\DATASHEET\DB15.jpg
pins: 1, 1, 2, 2, 3, 3, 4, 4, 5, 5, 6, 6, 7, 7, 8, 8, 9, 9, 10, 10, 11, 11, 12, 12, 13, 13, 14, 14, 15, 15

## CON_BUS_DC3-10P
designator J?, comment BUS-DC3
Male Box Header WR-BHD, THT, Vertical, pitch 2.54 mm; Container: Bus_Wire_Box; Label: DC3-BUS; Price: 0.54; Package: TH; Stock: 0; Manufacturer: https://shopee.vn/D%C3%A2y-C%C3%A1p-N%E1%BB%91i-D%E1%BB%AF-Li%E1%BB%87u-2.54mm-Pitch-30cm-Jtag-Isp-Avr-300mm-Fc-6-10-14-16-20-40p-6p-10p-i.81431289.10037063640; Temperature Range: -25 to +85 degC; ComponentLink1Description: Datasheet; ComponentLink1URL: E:\NEW_DATA\ELECTRONIC_DOCUMENT\DATASHEET\DC3-10P.jpg
pins: 1, 1, 2, 2, 3, 3, 4, 4, 5, 5, 6, 6, 7, 7, 8, 8, 9, 9, 10, 10

## CON_BUS_XH2.54-3PIN-40CM
designator J?, comment XH2.54-BUS
2.5mm pitch/Disconnectable Crimp style connectors.; Container: Bus_Wire_Box; Label: XH2.54_BUS; Price: 0.13; Package: TH; Stock: 1; Manufacturer: https://shopee.vn/D%C3%A2y-bus-tr%E1%BA%AFng-XH2.54-d%C3%A0i-10Cm-20cm-30cm-t%E1%BB%AB-2-%C4%91%E1%BA%BFn-12-s%E1%BB%A3i-2P-12P-hai-%C4%91%E1%BA%A7u-c%C3%A1i-4P-8P-12P-i.134796651.7623332783?sp_atk=06e60af9-fd47-4164-b936-6fbb033e42af&xptdk=06e60af9-fd47-4164-b936-6fbb033e42af; Temperature Range: -25 to +85 degC; ComponentLink1Description: Datasheet; ComponentLink1URL: E:\NEW_DATA\ELECTRONIC_DOCUMENT\DATASHEET\5448.pdf
pins: 1, 1, 2, 2, 3, 3

## CON_BUS_XH2.54-4PIN-10CM
designator J?, comment XH2.54-BUS
2.5mm pitch/Disconnectable Crimp style connectors.; Container: Bus_Wire_Box; Label: XH2.54_BUS; Price: 0.13; Package: TH; Stock: 4; Manufacturer: https://shopee.vn/D%C3%A2y-bus-tr%E1%BA%AFng-XH2.54-d%C3%A0i-10Cm-20cm-30cm-t%E1%BB%AB-2-%C4%91%E1%BA%BFn-12-s%E1%BB%A3i-2P-12P-hai-%C4%91%E1%BA%A7u-c%C3%A1i-4P-8P-12P-i.134796651.7623332783?sp_atk=06e60af9-fd47-4164-b936-6fbb033e42af&xptdk=06e60af9-fd47-4164-b936-6fbb033e42af; Temperature Range: -25 to +85 degC; ComponentLink1Description: Datasheet; ComponentLink1URL: E:\NEW_DATA\ELECTRONIC_DOCUMENT\DATASHEET\5448.pdf
pins: 1, 1, 2, 2, 3, 3, 4, 4

## CON_BUS_XH2.54-5PIN-20CM
designator J?, comment XH2.54-BUS
2.5mm pitch/Disconnectable Crimp style connectors.; Container: Bus_Wire_Box; Label: XH2.54_BUS; Price: 0.18; Package: TH; Stock: 1; Manufacturer: https://shopee.vn/D%C3%A2y-bus-tr%E1%BA%AFng-XH2.54-d%C3%A0i-10Cm-20cm-30cm-t%E1%BB%AB-2-%C4%91%E1%BA%BFn-12-s%E1%BB%A3i-2P-12P-hai-%C4%91%E1%BA%A7u-c%C3%A1i-4P-8P-12P-i.134796651.7623332783?sp_atk=06e60af9-fd47-4164-b936-6fbb033e42af&xptdk=06e60af9-fd47-4164-b936-6fbb033e42af; Temperature Range: -25 to +85 degC; ComponentLink1Description: Datasheet; ComponentLink1URL: E:\NEW_DATA\ELECTRONIC_DOCUMENT\DATASHEET\5448.pdf
pins: 1, 1, 2, 2, 3, 3, 4, 4, 5, 5

## CON_BUS_XH2.54-6PIN-40CM
designator J?, comment XH2.54-BUS
2.5mm pitch/Disconnectable Crimp style connectors.; Container: Bus_Wire_Box; Label: XH2.54_BUS; Price: 0.22; Package: TH; Stock: 1; Manufacturer: https://shopee.vn/D%C3%A2y-bus-tr%E1%BA%AFng-XH2.54-d%C3%A0i-10Cm-20cm-30cm-t%E1%BB%AB-2-%C4%91%E1%BA%BFn-12-s%E1%BB%A3i-2P-12P-hai-%C4%91%E1%BA%A7u-c%C3%A1i-4P-8P-12P-i.134796651.7623332783?sp_atk=06e60af9-fd47-4164-b936-6fbb033e42af&xptdk=06e60af9-fd47-4164-b936-6fbb033e42af; Temperature Range: -25 to +85 degC; ComponentLink1Description: Datasheet; ComponentLink1URL: E:\NEW_DATA\ELECTRONIC_DOCUMENT\DATASHEET\5448.pdf
pins: 1, 1, 2, 2, 3, 3, 4, 4, 5, 5, 6, 6

## CON_BUTTON
designator S?, comment BUTTON
SWITCH TACTILE SPST-NO 0.05A 12V; Container: Connector_Fuse_Box; Price: 0.25; Package: TH
footprint TL3342F260QG (SWITCH TACTILE SPST-NO 0.05A 12V)
footprint Header 2P (CON2)
pins: 1, 2

## CON_BUTTON_3X3X1.5MM_SMD
designator S?, comment BUTTON
Tact switch (Tactile Switch), 50mA, 12VDC.; Container: Connector_Fuse_Box; Label: Tact Switch 4.5X4.5X5; Price: 0.028; Package: TH; Stock: 10; Manufacturer: https://shopee.vn/N%C3%BAt-Nh%E1%BA%A5n-4-Ch%C3%A2n-Vu%C3%B4ng-%C4%90en-i.101915397.10716198032; Temperature Range: -25 to +85 degC; ComponentLink1Description: Datasheet; ComponentLink1URL: E:\NEW_DATA\ELECTRONIC_DOCUMENT\DATASHEET\tact-switch.pdf
footprint SW_TACT_3X3X1.5_SMD
pins: 1, 2

## CON_BUTTON_6X6X4.3MM_TH
designator S?, comment BUTTON
Tact switch (Tactile Switch), 50mA, 12VDC.; Container: Connector_Fuse_Box; Price: 0.01; Package: TH; Stock: 10; Label: BUTTON; Manufacturer: https://item.taobao.com/item.htm?spm=a1z10.3-c-s.w4002-22568747145.32.341d3c70HGar1H&id=564578259000; Temperature Range: -25 to +85 degC; ComponentLink1Description: Datasheet; ComponentLink1URL: E:\NEW_DATA\ELECTRONIC_DOCUMENT\DATASHEET\tact-switch.pdf
footprint Button-6x6x4.3 (SW button 4pin, 250 x250 mil)
pins: 1, 2

## CON_BUTTON_6X6X5MM_TH
designator S?, comment BUTTON
Tact switch (Tactile Switch), 50mA, 12VDC.; Container: Connector_Fuse_Box; Price: 0.01; Package: TH; Stock: 0; Label: BUTTON; Manufacturer: https://item.taobao.com/item.htm?spm=a1z10.3-c-s.w4002-22568747145.32.341d3c70HGar1H&id=564578259000; Temperature Range: -25 to +85 degC; ComponentLink1Description: Datasheet; ComponentLink1URL: E:\NEW_DATA\ELECTRONIC_DOCUMENT\DATASHEET\tact-switch.pdf
footprint Button-6x6x5 (SW button 4pin, 250 x250 mil)
pins: 1, 2

## CON_BUTTON_6X6X6MM_TH
designator S?, comment BUTTON
Tact switch (Tactile Switch), 50mA, 12VDC.; Container: Connector_Fuse_Box; Price: 0.01; Package: TH; Stock: 0; Label: BUTTON; Manufacturer: https://item.taobao.com/item.htm?spm=a1z10.3-c-s.w4002-22568747145.32.341d3c70HGar1H&id=564578259000; Temperature Range: -25 to +85 degC; ComponentLink1Description: Datasheet; ComponentLink1URL: E:\NEW_DATA\ELECTRONIC_DOCUMENT\DATASHEET\tact-switch.pdf
footprint Button-6x6x6 (SW button 4pin, 250 x250 mil)
pins: 1, 2

## CON_BUTTON_6X6X7MM_TH
designator S?, comment BUTTON
Tact switch (Tactile Switch), 50mA, 12VDC.; Container: Connector_Fuse_Box; Price: 0.01; Package: TH; Stock: 0; Label: BUTTON; Manufacturer: https://item.taobao.com/item.htm?spm=a1z10.3-c-s.w4002-22568747145.32.341d3c70HGar1H&id=564578259000; Temperature Range: -25 to +85 degC; ComponentLink1Description: Datasheet; ComponentLink1URL: E:\NEW_DATA\ELECTRONIC_DOCUMENT\DATASHEET\tact-switch.pdf
footprint Button-6x6x7 (SW button 4pin, 250 x250 mil)
pins: 1, 2

## CON_BUTTON_6X6X8MM_TH
designator S?, comment BUTTON
Tact switch (Tactile Switch), 50mA, 12VDC.; Container: Connector_Fuse_Box; Price: 0.01; Package: TH; Stock: 0; Label: BUTTON; Manufacturer: https://item.taobao.com/item.htm?spm=a1z10.3-c-s.w4002-22568747145.32.341d3c70HGar1H&id=564578259000; Temperature Range: -25 to +85 degC; ComponentLink1Description: Datasheet; ComponentLink1URL: E:\NEW_DATA\ELECTRONIC_DOCUMENT\DATASHEET\tact-switch.pdf
footprint Button-6x6x8 (SW button 4pin, 250 x250 mil)
pins: 1, 2

## CON_BUTTON_6X6X9MM_TH
designator S?, comment BUTTON
Tact switch (Tactile Switch), 50mA, 12VDC.; Container: Connector_Fuse_Box; Price: 0.01; Package: TH; Stock: 0; Label: BUTTON; Manufacturer: https://item.taobao.com/item.htm?spm=a1z10.3-c-s.w4002-22568747145.32.341d3c70HGar1H&id=564578259000; Temperature Range: -25 to +85 degC; ComponentLink1Description: Datasheet; ComponentLink1URL: E:\NEW_DATA\ELECTRONIC_DOCUMENT\DATASHEET\tact-switch.pdf
footprint Button-6x6x9 (SW button 4pin, 250 x250 mil)
pins: 1, 2

## CON_BUTTON_6X6X10MM_TH
designator S?, comment BUTTON
Tact switch (Tactile Switch), 50mA, 12VDC.; Container: Connector_Fuse_Box; Price: 0.01; Package: TH; Stock: 0; Label: BUTTON; Manufacturer: https://item.taobao.com/item.htm?spm=a1z10.3-c-s.w4002-22568747145.32.341d3c70HGar1H&id=564578259000; Temperature Range: -25 to +85 degC; ComponentLink1Description: Datasheet; ComponentLink1URL: E:\NEW_DATA\ELECTRONIC_DOCUMENT\DATASHEET\tact-switch.pdf
footprint Button-6x6x10 (SW button 4pin, 250 x250 mil)
pins: 1, 2

## CON_BUTTON_6X6X12MM_TH
designator S?, comment BUTTON
Tact switch (Tactile Switch), 50mA, 12VDC.; Container: Connector_Fuse_Box; Price: 0.01; Package: TH; Stock: 0; Label: BUTTON; Manufacturer: https://item.taobao.com/item.htm?spm=a1z10.3-c-s.w4002-22568747145.32.341d3c70HGar1H&id=564578259000; Temperature Range: -25 to +85 degC; ComponentLink1Description: Datasheet; ComponentLink1URL: E:\NEW_DATA\ELECTRONIC_DOCUMENT\DATASHEET\tact-switch.pdf
footprint Button-6x6x12 (SW button 4pin, 250 x250 mil)
pins: 1, 2

## CON_BUTTON_6X6X13MM_TH
designator S?, comment BUTTON
Tact switch (Tactile Switch), 50mA, 12VDC.; Container: Connector_Fuse_Box; Price: 0.01; Package: TH; Stock: 0; Label: BUTTON; Manufacturer: https://item.taobao.com/item.htm?spm=a1z10.3-c-s.w4002-22568747145.32.341d3c70HGar1H&id=564578259000; Temperature Range: -25 to +85 degC; ComponentLink1Description: Datasheet; ComponentLink1URL: E:\NEW_DATA\ELECTRONIC_DOCUMENT\DATASHEET\tact-switch.pdf
footprint Button-6x6x13 (SW button 4pin, 250 x250 mil)
pins: 1, 2

## CON_BUTTON_6X6X20MM_TH
designator S?, comment BUTTON
Tact switch (Tactile Switch), 50mA, 12VDC.; Container: Connector_Fuse_Box; Price: 0.01; Package: TH; Stock: 0; Label: BUTTON; Manufacturer: https://item.taobao.com/item.htm?spm=a1z10.3-c-s.w4002-22568747145.32.341d3c70HGar1H&id=564578259000; Temperature Range: -25 to +85 degC; ComponentLink1Description: Datasheet; ComponentLink1URL: E:\NEW_DATA\ELECTRONIC_DOCUMENT\DATASHEET\tact-switch.pdf
footprint Button-6x6x20 (SW button 4pin, 250 x250 mil)
pins: 1, 2

## CON_CAP_JPM-2P
designator J?, comment JPM-6PIN
2.54mm Standard Circuit Board Shunts Short Jumper Cap.; Container: Bus_Wire_Box; Label: JP-CAP; Price: 0.009; Package: TH; Stock: 131; Manufacturer: https://shopee.vn/10-chi%E1%BA%BFc-jump-n%E1%BB%91i-jump-ch%E1%BB%A5p-%C4%91%E1%BA%A7u-2.54mm-2-pin-mini-Jumper-i.85716713.2326706952?sp_atk=4865d402-f5c3-4b71-8b5d-d56dd32962ba&xptdk=4865d402-f5c3-4b71-8b5d-d56dd32962ba; Temperature Range: -25 to +85 degC; ComponentLink1Description: Datasheet; ComponentLink1URL: E:\NEW_DATA\ELECTRONIC_DOCUMENT\DATASHEET\35470602.pdf
footprint JP2-CLOSED

## CON_CAR-FUSE_1A
designator F?, comment 1A
RESISTOR-FUSE 1 OHM +-5% 0.5W @70; Package: TH
footprint Fuse-SMD 2920
footprint Fuse-SMD 1813
footprint Fuse-SMD 1210
footprint Fuse-SMD 1206
footprint Fuse-Dip1
footprint FUSE_SMD_DIP
pins: 1, 2

## CON_FEMALE_BULLET-4MM_BLACK
designator J?, comment B-4MM
Female Bullet - Vinyl Insulated, 10A; Container: Connector_Fuse_Box; Label: BULLET-4MM; Price: 0.018; Package: TH; Stock: 6; Manufacturer: https://shopee.vn/B%E1%BB%99-50-gi%E1%BA%AFc-c%E1%BA%AFm-c%C3%A1ch-%C4%91i%E1%BB%87n-g%E1%BB%93m-25-%C4%91%E1%BA%A7u-n%E1%BB%91i-25-c%E1%BB%95ng-n%E1%BB%91i-cho-d%C3%A2y-%C4%91i%E1%BB%87n-22~16-AWG-i.101758806.1652840082; Temperature Range: -25 to +85 degC; ComponentLink1Description: Datasheet; ComponentLink1URL: E:\NEW_DATA\ELECTRONIC_DOCUMENT\DATASHEET\11.pdf
pins: C

## CON_FEMALE_BULLET-4MM_BLUE
designator J?, comment B-4MM
Female Bullet - Vinyl Insulated, 10A; Container: Connector_Fuse_Box; Label: BULLET-4MM; Price: 0.018; Package: TH; Stock: 8; Manufacturer: https://shopee.vn/B%E1%BB%99-50-gi%E1%BA%AFc-c%E1%BA%AFm-c%C3%A1ch-%C4%91i%E1%BB%87n-g%E1%BB%93m-25-%C4%91%E1%BA%A7u-n%E1%BB%91i-25-c%E1%BB%95ng-n%E1%BB%91i-cho-d%C3%A2y-%C4%91i%E1%BB%87n-22~16-AWG-i.101758806.1652840082; Temperature Range: -25 to +85 degC; ComponentLink1Description: Datasheet; ComponentLink1URL: E:\NEW_DATA\ELECTRONIC_DOCUMENT\DATASHEET\11.pdf
pins: C

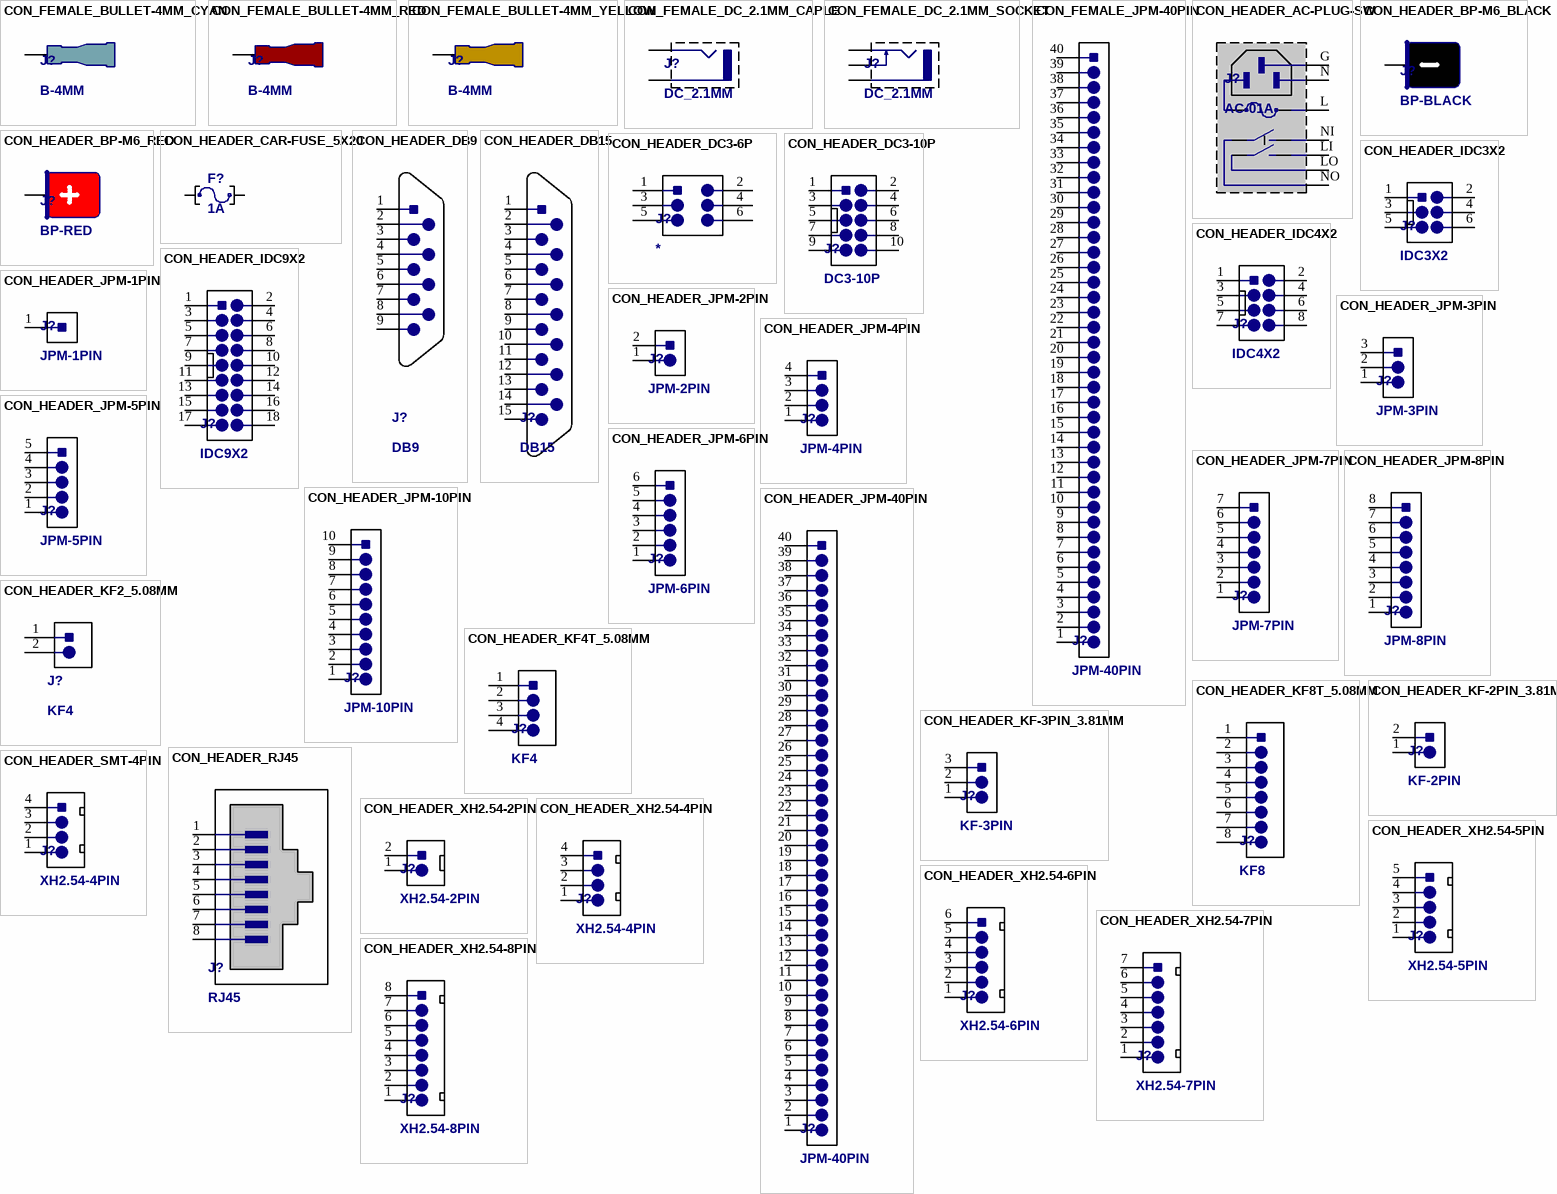
[diagram p2: symbols CON_FEMALE_BULLET-4MM_CYAN to CON_HEADER_XH2.54-8PIN]

## CON_FEMALE_BULLET-4MM_CYAN
designator J?, comment B-4MM
Female Bullet - Vinyl Insulated, 10A; Container: Connector_Fuse_Box; Label: BULLET-4MM; Price: 0.018; Package: TH; Stock: 7; Manufacturer: https://shopee.vn/B%E1%BB%99-50-gi%E1%BA%AFc-c%E1%BA%AFm-c%C3%A1ch-%C4%91i%E1%BB%87n-g%E1%BB%93m-25-%C4%91%E1%BA%A7u-n%E1%BB%91i-25-c%E1%BB%95ng-n%E1%BB%91i-cho-d%C3%A2y-%C4%91i%E1%BB%87n-22~16-AWG-i.101758806.1652840082; Temperature Range: -25 to +85 degC; ComponentLink1Description: Datasheet; ComponentLink1URL: E:\NEW_DATA\ELECTRONIC_DOCUMENT\DATASHEET\11.pdf
pins: C

## CON_FEMALE_BULLET-4MM_RED
designator J?, comment B-4MM
Female Bullet - Vinyl Insulated, 10A; Container: Connector_Fuse_Box; Label: BULLET-4MM; Price: 0.018; Package: TH; Stock: 4; Manufacturer: https://shopee.vn/B%E1%BB%99-50-gi%E1%BA%AFc-c%E1%BA%AFm-c%C3%A1ch-%C4%91i%E1%BB%87n-g%E1%BB%93m-25-%C4%91%E1%BA%A7u-n%E1%BB%91i-25-c%E1%BB%95ng-n%E1%BB%91i-cho-d%C3%A2y-%C4%91i%E1%BB%87n-22~16-AWG-i.101758806.1652840082; Temperature Range: -25 to +85 degC; ComponentLink1Description: Datasheet; ComponentLink1URL: E:\NEW_DATA\ELECTRONIC_DOCUMENT\DATASHEET\11.pdf
pins: C

## CON_FEMALE_BULLET-4MM_YELLOW
designator J?, comment B-4MM
Female Bullet - Vinyl Insulated, 10A; Container: Connector_Fuse_Box; Label: BULLET-4MM; Price: 0.018; Package: TH; Stock: 7; Manufacturer: https://shopee.vn/B%E1%BB%99-50-gi%E1%BA%AFc-c%E1%BA%AFm-c%C3%A1ch-%C4%91i%E1%BB%87n-g%E1%BB%93m-25-%C4%91%E1%BA%A7u-n%E1%BB%91i-25-c%E1%BB%95ng-n%E1%BB%91i-cho-d%C3%A2y-%C4%91i%E1%BB%87n-22~16-AWG-i.101758806.1652840082; Temperature Range: -25 to +85 degC; ComponentLink1Description: Datasheet; ComponentLink1URL: E:\NEW_DATA\ELECTRONIC_DOCUMENT\DATASHEET\11.pdf
pins: C

## CON_FEMALE_DC_2.1MM_CAPLE
designator J?, comment DC_2.1MM
Female DC 2.1MM Cable; Container: Connector_Fuse_Box; Label: DC_FEMALE_2.1MM; Price: 0.11; Package: TH; Stock: 1; Manufacturer: https://shopee.vn/D%C3%A2y-Ngu%E1%BB%93n-c%C3%B3-Jack-DC-5.5*2.1mm-i.106323333.5003521700?sp_atk=66d71019-ef64-4256-9d3d-06c5b770eb4b&xptdk=66d71019-ef64-4256-9d3d-06c5b770eb4b; Temperature Range: -25 to +85 degC; ComponentLink1Description: Datasheet; ComponentLink1URL: E:\NEW_DATA\ELECTRONIC_DOCUMENT\DATASHEET\jack.jpg
pins: N, P

## CON_FEMALE_DC_2.1MM_SOCKET
designator J?, comment DC_2.1MM
Female DC 2.1MM Socket; Container: Connector_Fuse_Box; Label: DC_FEMALE_2.1MM; Price: 0.044; Package: TH; Stock: 0; Manufacturer: https://shopee.vn/combo-5-%C4%90%E1%BA%A7u-C%E1%BA%AFm-Ngu%E1%BB%93n-DC-C%C3%81I-5.5*2.1mm-(-Jack-ngu%E1%BB%93n-DC-005-ch%C3%A2n-h%C3%A0n-)-i.106323333.7109600094?sp_atk=ae9a1cc3-5318-4473-9d0f-eb4c88874d1c&xptdk=ae9a1cc3-5318-4473-9d0f-eb4c88874d1c; Temperature Range: -25 to +85 degC; ComponentLink1Description: Datasheet; ComponentLink1URL: E:\NEW_DATA\ELECTRONIC_DOCUMENT\DATASHEET\tact-switch.pdf
pins: C, N, P

## CON_FEMALE_JPM-40PIN
designator J?, comment JPM-40PIN
Header 2.54mm female 40 Pin, Single row.; Container: Bus_Wire_Box; Label: JPM-40P-FEMALE; Price: 0.07; Package: TH; Stock: 2; Manufacturer: https://shopee.vn/H%C3%A0ng-R%C3%A0o-%C4%90%E1%BB%B1c-%C4%90%C6%A1n-Ch%C3%A2n-Th%E1%BA%B3ng-40-Ch%C3%A2n-(Header-2.54-40Pin)-i.106323333.2772909361?sp_atk=56e76b2a-d9b4-4869-a18c-e19f4912a2ea&xptdk=56e76b2a-d9b4-4869-a18c-e19f4912a2ea; Temperature Range: -25 to +85 degC; ComponentLink1Description: Datasheet; ComponentLink1URL: E:\NEW_DATA\ELECTRONIC_DOCUMENT\DATASHEET\35470602.pdf
footprint JP40-C1T (40 row, straight, gold plating)
pins: 1, 2, 3, 4, 5, 6, 7, 8, 9, 10, 11, 12, 13, 14, 15, 16, 17, 18, 19, 20, 21, 22, 23, 24, 25, 26, 27, 28, 29, 30, 31, 32, 33, 34, 35, 36, 37, 38, 39, 40

## CON_HEADER_AC-PLUG-SW
designator J?, comment AC-01A
LJLCD Switch AC-01A Power Rocker Switch; Container: Connector_Fuse_Box; Label: AC-PLUG; Price: 0.73; Package: TH; Stock: 1; Manufacturer: https://shopee.vn/%E1%BB%94-C%E1%BA%AFm-Ngu%E1%BB%93n-AC-3-Ch%C3%A2n-C%C3%B3-C%C3%B4ng-T%E1%BA%AFc-%C4%90%E1%BA%BF-C%E1%BA%A7u-Ch%C3%AC-AC-01A-i.9731150.7767996902; Temperature Range: -25 to +85 degC; ComponentLink1Description: Datasheet; ComponentLink1URL: E:\NEW_DATA\ELECTRONIC_DOCUMENT\DATASHEET\AC-01.jpg
pins: G, L, LI, LO, N, NI, NO

## CON_HEADER_BP-M6_BLACK
designator J?, comment BP-BLACK
BINDING POSTS M6; Container: Connector_Fuse_Box; Label: BP_PACK; Price: 0.05; Package: TH; Stock: 5; Manufacturer: https://shopee.vn/B%E1%BB%99-20-c%C3%A1i-%E1%BB%95-c%E1%BA%AFm-chu%E1%BB%91i-thi%E1%BA%BFt-b%E1%BB%8B-%C4%91%E1%BA%A7u-cu%E1%BB%91i-4mm-i.101758806.1647960684; Temperature Range: -25 to +85 degC; ComponentLink1Description: Datasheet; ComponentLink1URL: E:\NEW_DATA\ELECTRONIC_DOCUMENT\DATASHEET\BP.pdf
footprint HEADER_BP-M6_N
pins: N

## CON_HEADER_BP-M6_RED
designator J?, comment BP-RED
BINDING POSTS M6; Container: Connector_Fuse_Box; Label: BP_PACK; Price: 0.05; Package: TH; Stock: 5; Manufacturer: https://shopee.vn/B%E1%BB%99-20-c%C3%A1i-%E1%BB%95-c%E1%BA%AFm-chu%E1%BB%91i-thi%E1%BA%BFt-b%E1%BB%8B-%C4%91%E1%BA%A7u-cu%E1%BB%91i-4mm-i.101758806.1647960684; Temperature Range: -25 to +85 degC; ComponentLink1Description: Datasheet; ComponentLink1URL: E:\NEW_DATA\ELECTRONIC_DOCUMENT\DATASHEET\BP.pdf
footprint HEADER_BP-M6_P
pins: P